# EAGLE library part 64902021022 (library Wurth_Elektronik_Electromechanic_Wire_to_Board_Connectors_rev16a)
WR-MPC4-4.20mm Male Dual Row Angled Header with Mounting Flanges for Screw-in Retention,20 pins=>Code : Con_WTB_MPC4_2_PCB_64902021022 <http://katalog.we-online.de/media/thumbs2/eican/thb_Con_WTB_MPC4_2_PCB_6490xx21022_pf2.jpg> Details see: http://katalog.we-online.de/en/em/649_0xx_210_22 Created 2014-06-06, Karrer Zheng 2014 (C) Würth Elektronik
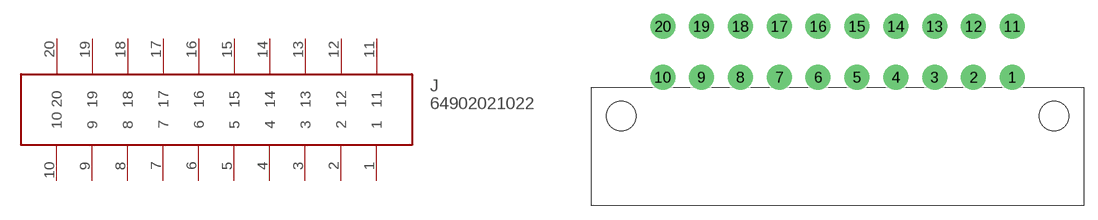
[diagram p310: symbol with the pads of 64902021022; footprint 64902021022]

Designator prefix J

## 64902021022  [64902021022]
1  1
2  2
3  3
4  4
5  5
6  6
7  7
8  8
9  9
10  10
11  11
12  12
13  13
14  14
15  15
16  16
17  17
18  18
19  19
20  20

## Footprint 64902021022 (pad centres in mm)
WR-MPC4-4.20mm Male Dual Row Angled Header with Mounting Flanges for Screw-in Retention,20 pins
drill 1.8: 1 18.89,4.2; 2 14.69,4.2; 3 10.49,4.2; 4 6.29,4.2; 5 2.09,4.2; 6 -2.11,4.2; 7 -6.31,4.2; 8 -10.51,4.2; 9 -14.71,4.2; 10 -18.91,4.2; 11 18.89,9.7; 12 14.69,9.7; 13 10.49,9.7; 14 6.29,9.7; 15 2.09,9.7; 16 -2.11,9.7; 17 -6.31,9.7; 18 -10.51,9.7; 19 -14.71,9.7; 20 -18.91,9.7
hole 3.2 at -23.41,0
hole 3.2 at 23.39,0